# Altium footprint library Control_Board_Library.PcbLib: 61 footprints (part 2 of 4)
Each footprint in its own frame and in the unit in brackets; x right, y up, seen from the top. Pads: shape width x height; smd on the part's side, far side on the other; paste and mask are expansions set on the pad; w line width, h text height; cw(c..) or ccw(c..) is an arc to the next point about the centre after c.
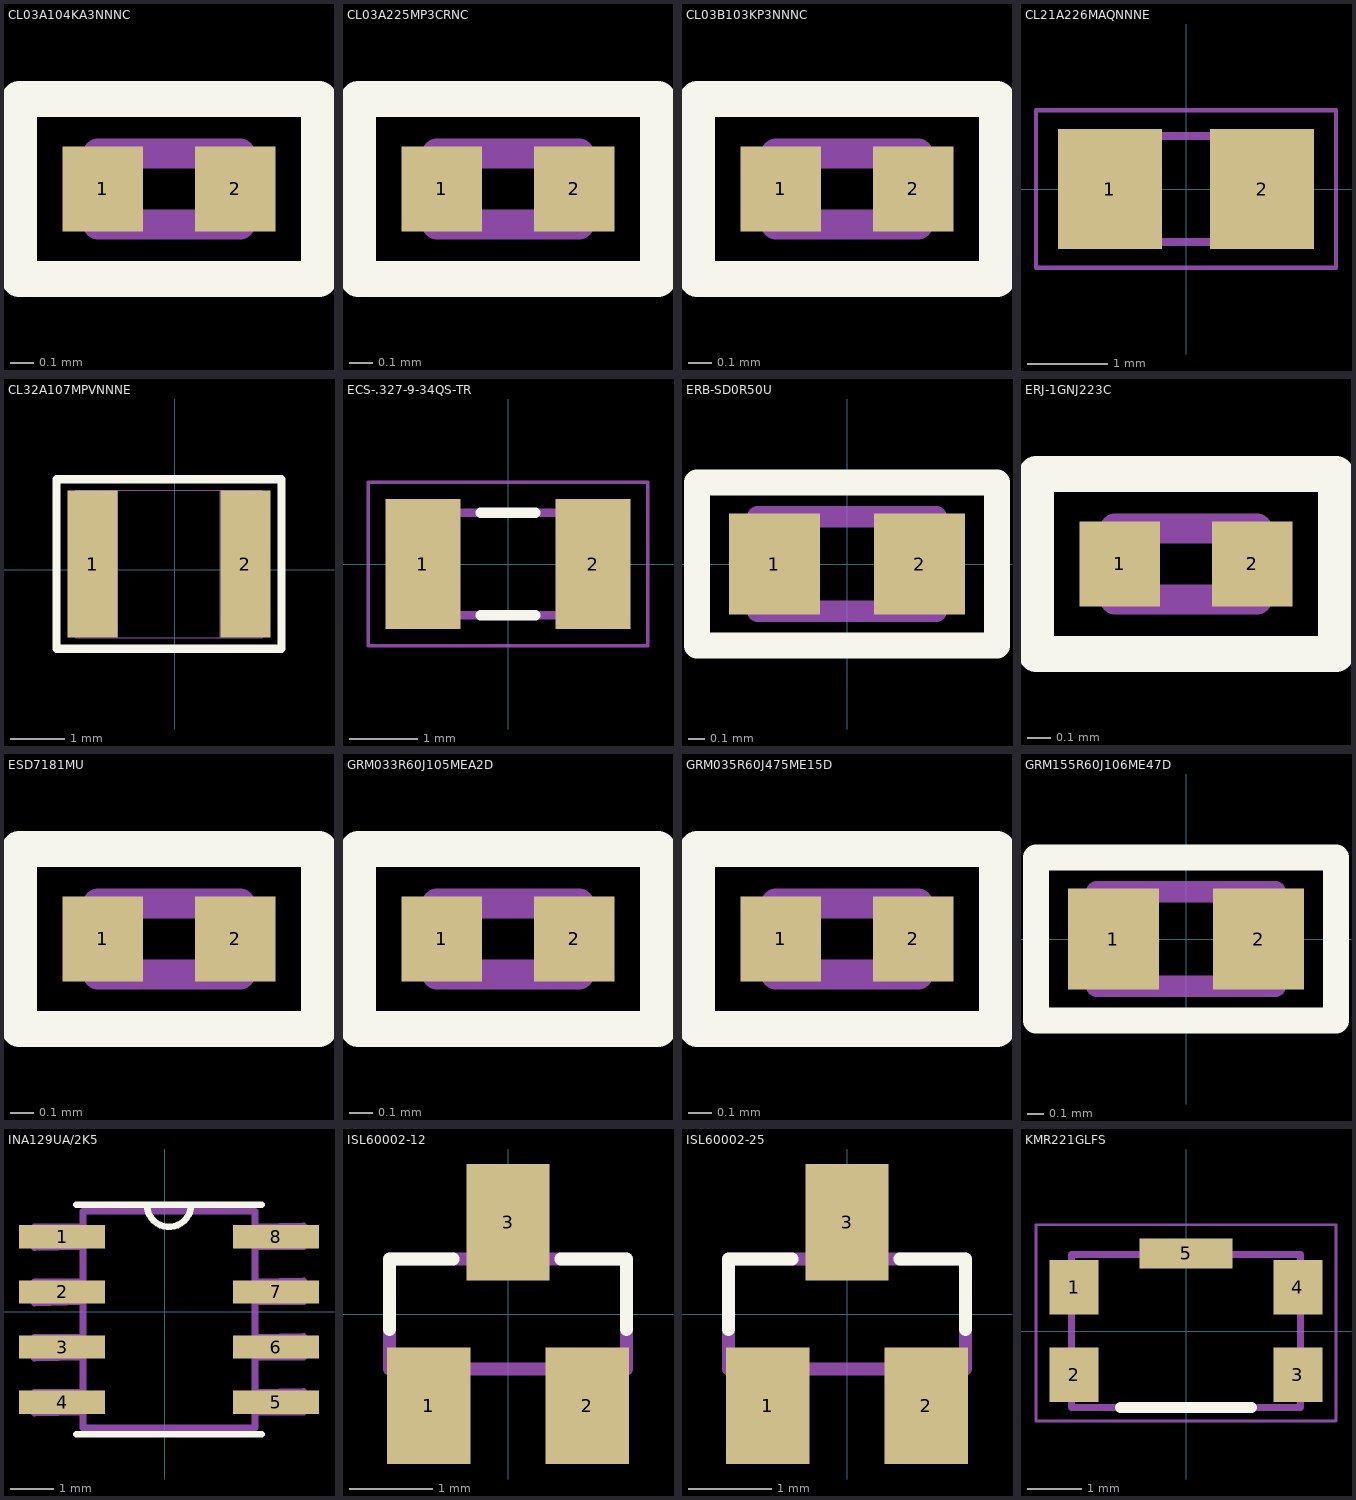
[diagram p1: the footprints below, top view; thin cyan lines are the x and y axes]

## CL03A104KA3NNNC [mm]
pads (2):
  rect 0.34x0.36 smd: 1(7.975,14.351) 2(8.535,14.351)
Top Overlay:
  lines w0.152: 7.62,13.97 8.89,13.97 8.89,14.732 7.62,14.732 7.62,13.97
Mechanical 1:
  region: 7.954,14.451 8.055,14.451 8.055,14.251 7.954,14.251
  region: 8.456,14.451 8.555,14.451 8.555,14.251 8.456,14.251
  lines w0.127: 7.955,14.201 8.555,14.201 8.555,14.501 7.955,14.501 7.955,14.201
3D body "Capacitor_0201.STEP": height 0.3, standoff 0, extent 7.955,14.201 8.555,14.501

## CL03A225MP3CRNC [mm]
pads (2):
  rect 0.34x0.36 smd: 1(7.975,14.351) 2(8.535,14.351)
Top Overlay:
  lines w0.152: 7.62,13.97 8.89,13.97 8.89,14.732 7.62,14.732 7.62,13.97
Mechanical 1:
  region: 7.954,14.451 8.055,14.451 8.055,14.251 7.954,14.251
  region: 8.456,14.451 8.555,14.451 8.555,14.251 8.456,14.251
  lines w0.127: 7.955,14.201 8.555,14.201 8.555,14.501 7.955,14.501 7.955,14.201
3D body "Capacitor_0201.STEP": height 0.3, standoff 0, extent 7.955,14.201 8.555,14.501

## CL03B103KP3NNNC [mm]
pads (2):
  rect 0.34x0.36 smd: 1(7.975,14.351) 2(8.535,14.351)
Top Overlay:
  lines w0.152: 7.62,13.97 7.62,14.732 8.89,14.732 8.89,13.97 7.62,13.97
Mechanical 1:
  region: 8.456,14.451 8.555,14.451 8.555,14.251 8.456,14.251
  region: 7.954,14.451 8.055,14.451 8.055,14.251 7.954,14.251
  lines w0.127: 7.955,14.201 7.955,14.501 8.555,14.501 8.555,14.201 7.955,14.201
3D body "Capacitor_0201.STEP": height 0.3, standoff 0, extent 7.955,14.201 8.555,14.501

## CL21A226MAQNNNE [mm]
pads (2):
  rect 1.3x1.5 smd: 1(-0.95,0) 2(0.95,0)
Mechanical 1:
  region: 0.357,0.726 1.106,0.726 1.106,-0.726 0.357,-0.726
  region: -1.093,0.726 -0.342,0.726 -0.342,-0.724 -1.093,-0.724
  lines w0.102: -0.381,0.66 0.381,0.66 ; -0.356,-0.66 0.381,-0.66
Mechanical 4:
  lines w0.051: -1.873,-0.983 -1.873,0.983 1.873,0.983 1.873,-0.983 -1.873,-0.983
3D body "Capacitor_0805.step": height 0.95, standoff 0, extent -0.975,-0.6 1.025,0.6

## CL32A107MPVNNNE [mil]
pads (2):
  rect 36x106 smd: 1(-59,4) 2(51,4)
Top Overlay:
  lines w6: -85,-57 77,-57 77,65 -85,65 -85,-57
Mechanical 1:
  lines w0: -41,-49 -41,57 ; -41,-49 -71,-49 -71,57 -41,57 ; -41,-49 33,-49 ; -41,57 33,57 ; 33,-49 33,57 ; 33,-49 63,-49 63,57 33,57
3D body "Capacitor_1210.stp": height 83.74, standoff 1.06, extent -70.86,-49.15 63,57.15

## ECS-.327-9-34QS-TR [mm]
pads (2):
  rect 1.1x1.9 smd: 1(-1.25,0) 2(1.25,0)
Top Overlay:
  lines w0.152: -0.4,-0.75 0.4,-0.75 ; -0.4,0.75 0.4,0.75
Mechanical 1:
  lines w0.127: -1.6,-0.75 1.6,-0.75 1.6,0.75 -1.6,0.75 -1.6,-0.75
Mechanical 4:
  lines w0.05: -2.05,-1.2 2.05,-1.2 2.05,1.2 -2.05,1.2 -2.05,-1.2
3D body "ECS-.327-9-34QS-TR.STEP": height 0.9, standoff 0, extent -1.6,-0.75 1.6,0.75

## ERB-SD0R50U [mm]
pads (2):
  rect 0.54x0.6 smd: 1(-0.43,0) 2(0.43,0)
Top Overlay:
  lines w0.152: -0.889,-0.483 -0.889,0.483 0.889,0.483 0.889,-0.483 -0.889,-0.483
Mechanical 1:
  lines w0.127: -0.53,-0.28 -0.53,0.28 0.53,0.28 0.53,-0.28 -0.53,-0.28
3D body "Capacitor_0402.stp": height 0.55, standoff 0, extent -0.525,-0.279 0.525,0.271

## ERJ-1GNJ223C [mm]
pads (2):
  rect 0.34x0.36 smd: 1(7.975,14.351) 2(8.535,14.351)
Top Overlay:
  lines w0.152: 7.62,13.97 8.89,13.97 8.89,14.732 7.62,14.732 7.62,13.97
Mechanical 1:
  region: 7.954,14.451 8.055,14.451 8.055,14.251 7.954,14.251
  region: 8.456,14.451 8.555,14.451 8.555,14.251 8.456,14.251
  lines w0.127: 7.955,14.201 8.555,14.201 8.555,14.501 7.955,14.501 7.955,14.201
3D body "Resistor_0201.STEP": height 0.34, standoff 0, extent 7.915,14.186 8.595,14.516

## ESD7181MU [mm]
pads (2):
  rect 0.34x0.36 smd: 1(7.975,14.351) 2(8.535,14.351)
Top Overlay:
  lines w0.152: 7.62,13.97 8.89,13.97 8.89,14.732 7.62,14.732 7.62,13.97
Mechanical 1:
  region: 7.954,14.451 8.055,14.451 8.055,14.251 7.954,14.251
  region: 8.456,14.451 8.555,14.451 8.555,14.251 8.456,14.251
  lines w0.127: 7.955,14.201 8.555,14.201 8.555,14.501 7.955,14.501 7.955,14.201
3D body "Resistor_0201.STEP": height 0.34, standoff 0, extent 7.915,14.186 8.595,14.516

## GRM033R60J105MEA2D [mm]
pads (2):
  rect 0.34x0.36 smd: 1(7.975,14.351) 2(8.535,14.351)
Top Overlay:
  lines w0.152: 7.62,13.97 7.62,14.732 8.89,14.732 8.89,13.97 7.62,13.97
Mechanical 1:
  region: 8.456,14.451 8.555,14.451 8.555,14.251 8.456,14.251
  region: 7.954,14.451 8.055,14.451 8.055,14.251 7.954,14.251
  lines w0.127: 7.955,14.201 7.955,14.501 8.555,14.501 8.555,14.201 7.955,14.201
3D body "Capacitor_0201.STEP": height 0.3, standoff 0, extent 7.955,14.201 8.555,14.501

## GRM035R60J475ME15D [mm]
pads (2):
  rect 0.34x0.36 smd: 1(7.975,14.351) 2(8.535,14.351)
Top Overlay:
  lines w0.152: 7.62,13.97 8.89,13.97 8.89,14.732 7.62,14.732 7.62,13.97
Mechanical 1:
  region: 7.954,14.451 8.055,14.451 8.055,14.251 7.954,14.251
  region: 8.456,14.451 8.555,14.451 8.555,14.251 8.456,14.251
  lines w0.127: 7.955,14.201 8.555,14.201 8.555,14.501 7.955,14.501 7.955,14.201
3D body "Capacitor_0201.STEP": height 0.3, standoff 0, extent 7.955,14.201 8.555,14.501

## GRM155R60J106ME47D [mm]
pads (2):
  rect 0.54x0.6 smd: 1(-0.43,0) 2(0.43,0)
Top Overlay:
  lines w0.152: -0.889,-0.483 0.889,-0.483 0.889,0.483 -0.889,0.483 -0.889,-0.483
Mechanical 1:
  lines w0.127: -0.53,-0.28 0.53,-0.28 0.53,0.28 -0.53,0.28 -0.53,-0.28
3D body "Capacitor_0402.stp": height 0.55, standoff 0, extent -0.525,-0.279 0.525,0.271

## INA129UA/2K5 [mil]
pads (8):
  rect 78x21 smd: 1(-93,68) 2(-93,18) 3(-93,-32) 4(-93,-82) 5(101,-82) 6(101,-32) 7(101,18) 8(101,68)
Top Overlay:
  lines w6: -80,-111 88,-111 ; -80,97 88,97 ; -16,97 ccw(c4,97) 24,97
Mechanical 1:
  lines w6: -118,-92 -74,-91 -74,-73 -118,-73 -118,-92 ; -118,-42 -74,-41 -74,-23 -118,-23 -118,-42 ; -118,8 -74,9 -74,27 -118,27 -118,8 ; -118,58 -74,59 -74,77 -118,77 -118,58 ; -74,-105 -74,91 -8,91 82,91 82,-105 -74,-105 ; 82,-91 126,-91 126,-72 82,-73 82,-91 ; 82,-41 126,-41 126,-22 82,-23 82,-41 ; 82,9 126,9 126,28 82,27 82,9 ; 82,59 126,59 126,78 82,77 82,59
3D body "8-SOIC.STEP": height 68.9, standoff 0, extent -118.1,-101.46 118.12,91.46

## ISL60002-12 [mm]
pads (3):
  rect 1x1.4 smd: 1(-0.95,-1.1) 2(0.95,-1.1) 3(0,1.1)
Top Overlay:
  lines w0.152: -1.422,-0.185 -1.422,0.66 -0.658,0.66 ; 0.633,0.66 1.422,0.66 1.422,-0.185
Mechanical 1:
  region: -0.229,1.295 0.229,1.295 0.229,0.713 -0.229,0.713
  region: -0.229,1.295 0.229,1.295 0.229,0.712 -0.229,0.712
  region: -0.23,1.295 0.229,1.295 0.229,0.715 -0.23,0.715
  region: -0.229,1.295 0.229,1.295 0.229,0.713 -0.229,0.713
  region: -0.229,1.295 0.229,1.295 0.229,0.713 -0.229,0.713
  region: -1.17,-0.711 -0.711,-0.711 -0.711,-1.298 -1.17,-1.298
  region: 0.713,-0.711 1.168,-0.711 1.168,-1.298 0.713,-1.298
  region: -0.229,1.295 0.229,1.295 0.229,0.713 -0.229,0.713
  lines w0.152: -1.422,-0.66 -1.422,0.66 1.422,0.66 1.422,-0.66 -1.422,-0.66
3D body "SOT-23-3.STEP": height 1.3, standoff 0, extent -1.424,-1.451 1.476,1.349

## ISL60002-25 [mm]
pads (3):
  rect 1x1.4 smd: 1(-0.95,-1.1) 2(0.95,-1.1) 3(0,1.1)
Top Overlay:
  lines w0.152: -1.422,-0.185 -1.422,0.66 -0.658,0.66 ; 0.633,0.66 1.422,0.66 1.422,-0.185
Mechanical 1:
  region: -0.229,1.295 0.229,1.295 0.229,0.713 -0.229,0.713
  region: -0.229,1.295 0.229,1.295 0.229,0.712 -0.229,0.712
  region: -0.23,1.295 0.229,1.295 0.229,0.715 -0.23,0.715
  region: -0.229,1.295 0.229,1.295 0.229,0.713 -0.229,0.713
  region: -0.229,1.295 0.229,1.295 0.229,0.713 -0.229,0.713
  region: -1.17,-0.711 -0.711,-0.711 -0.711,-1.298 -1.17,-1.298
  region: 0.713,-0.711 1.168,-0.711 1.168,-1.298 0.713,-1.298
  region: -0.229,1.295 0.229,1.295 0.229,0.713 -0.229,0.713
  lines w0.152: -1.422,-0.66 -1.422,0.66 1.422,0.66 1.422,-0.66 -1.422,-0.66
3D body "SOT-23-3.STEP": height 1.3, standoff 0, extent -1.424,-1.451 1.476,1.349

## KMR221GLFS [mm]
pads (5):
  rect 0.9x1 smd: 1(-2.05,0.8) 2(-2.05,-0.8) 3(2.05,-0.8) 4(2.05,0.8)
  rect 1.7x0.55 smd: 5(0,1.425)
Top Overlay:
  lines w0.2: -1.2,-1.4 1.2,-1.4
Mechanical 4:
  lines w0.127: -2.1,-1.4 2.1,-1.4 ; -2.1,-1.4 -2.1,1.4 ; -2.1,-1.4 2.1,-1.4 ; -2.1,-1.4 -2.1,1.4 ; -2.1,1.4 2.1,1.4 ; -2.1,1.4 2.1,1.4 ; 2.1,-1.4 2.1,1.4 ; 2.1,-1.4 2.1,1.4
Mechanical 16:
  lines w0.05: -2.75,-1.65 2.75,-1.65 2.75,1.95 -2.75,1.95 -2.75,-1.65
3D body "KMR2.STEP": height 2.1, standoff 0, extent -2.274,-1.5 2.326,1.5